# EAGLE library part FLASH-BRIDGE-SW1-SW2-LED1-LED2 (library _openSX70)
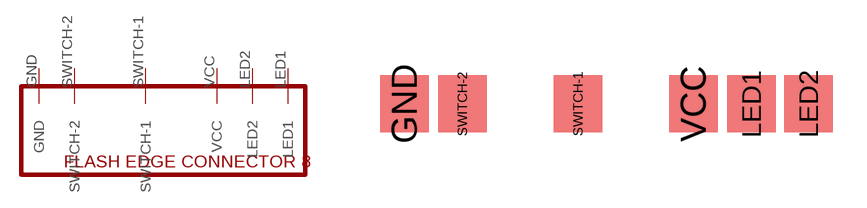
[diagram p3: symbol with the pads of FLASH-8-BRIDGE-SW1-SW2-LED; footprint FLASH-8-BRIDGE-SW1-SW2-LED]

Designator prefix -

## FLASH-BRIDGE-SW1-SW2-LED1-LED2  [FLASH-8-BRIDGE-SW1-SW2-LED]
GND  GND
LED1  LED1
LED2  LED2
SWITCH-1  SWITCH-1
SWITCH-2  SWITCH-2
VCC  VCC

## Footprint FLASH-8-BRIDGE-SW1-SW2-LED (pad centres in mm)
smd 2.159 x 2.54: GND -9,-0.12; LED1 6.42,-0.12; LED2 8.96,-0.12; SWITCH-1 -1.29,-0.12; SWITCH-2 -6.43,-0.12; VCC 3.85,-0.12